# EAGLE library part UDA1334A (library uda1334a)
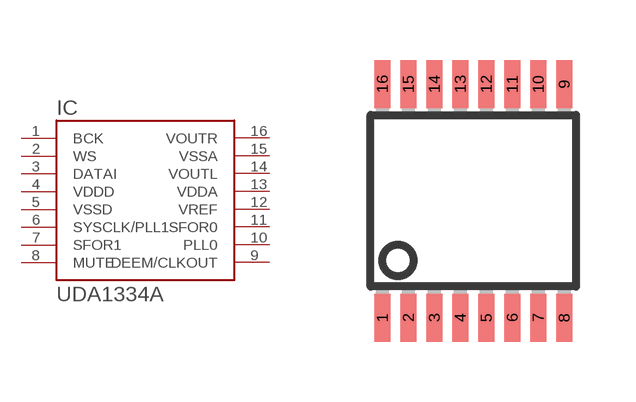
[diagram p0: symbol with the pads of SSOP16; footprint SSOP16]

Designator prefix IC

## UDA1334A  [SSOP16]
1  BCK
2  WS
3  DATAI
4  VDDD
5  VSSD
6  SYSCLK/PLL1
7  SFOR1
8  MUTE
9  DEEM/CLKOUT
10  PLL0
11  SFOR0
12  VREF
13  VDDA
14  VOUTL
15  VSSA
16  VOUTR

## Footprint SSOP16 (pad centres in mm)
Small Shrink Outline Package
smd 0.4 x 1.2: 1 -2.275,-2.925; 2 -1.625,-2.925; 3 -0.975,-2.925; 4 -0.325,-2.925; 5 0.325,-2.925; 6 0.975,-2.925; 7 1.625,-2.925; 8 2.275,-2.925; 9 2.275,2.925; 10 1.625,2.925; 11 0.975,2.925; 12 0.325,2.925; 13 -0.325,2.925; 14 -0.975,2.925; 15 -1.625,2.925; 16 -2.275,2.925